# Altium schematic symbol library QUTMS_RelayLibrary.SchLib: 6 symbols
Pins are listed as number, name and electrical type; pins without a type are passive.

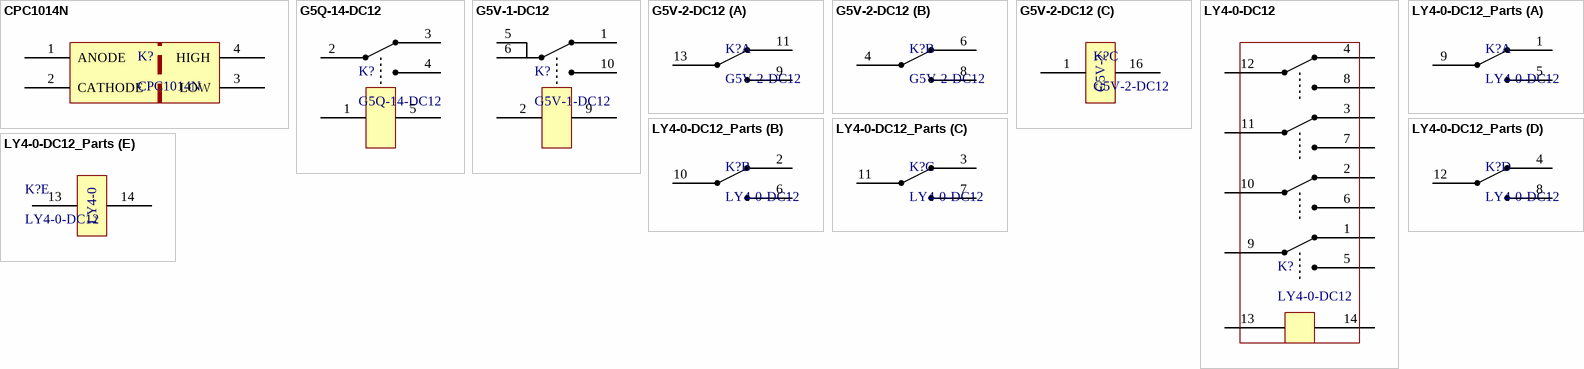
[diagram p0: symbols CPC1014N to LY4-0-DC12_Parts]

## CPC1014N
designator K?
Solid State SPST-NO (1 Form A) 4-SOP (0.150", 3.81mm)
footprint CPC1014N
pins: 1 ANODE, 2 CATHODE, 3 LOW, 4 HIGH

## G5Q-14-DC12
designator K?
General Purpose Relay SPDT (1 Form C) 12VDC Coil Through Hole, 12V, 16A
footprint G5Q-14
pins: 1, 2, 3, 4, 5

## G5V-1-DC12
designator K?
General Purpose Relay SPDT (1 Form C) Through Hole, 12V, 2A
footprint G5V-1
pins: 1, 2, 5, 6, 9, 10

## G5V-2-DC12
designator K?
General Purpose Relay DPDT (2 Form C) Through Hole, 12V, 2A
footprint G5V-2
part A pins: 9, 11, 13
part B pins: 4, 6, 8
part C pins: 1, 16
part C text: G5V-2

## LY4-0-DC12
designator K?
RELAY GEN PURPOSE 4PDT 10A 12V Through-hole
footprint LY4-0-DC12
pins: 1, 2, 3, 4, 5, 6, 7, 8, 9, 10, 11, 12, 13, 14

## LY4-0-DC12_Parts
designator K?, comment LY4-0-DC12
RELAY GEN PURPOSE 4PDT 10A 12V Through-hole
footprint LY4-0-DC12
part A pins: 1, 5, 9
part B pins: 2, 6, 10
part C pins: 3, 7, 11
part D pins: 4, 8, 12
part E pins: 13, 14
part E text: LY4-0